# EAGLE library part TP4056 (library pimoroni-ics)
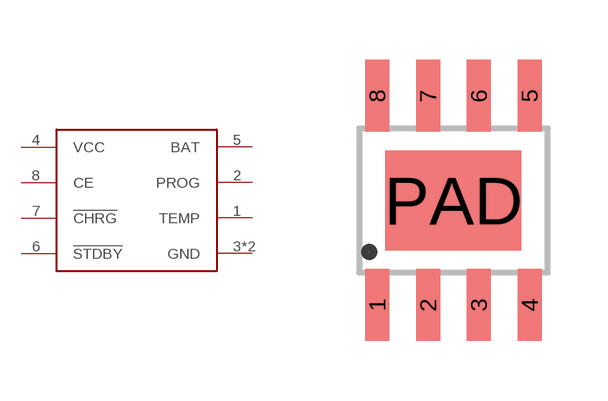
[diagram p78: symbol with the pads of SO08-PAD-300; footprint SO08-PAD-300]

Designator prefix U

## TP4056  [SO08-PAD-300]
1  TEMP
2  PROG
3  GND
4  VCC
5  BAT
6  !STDBY
7  !CHRG
8  CE
PAD  GND

## Footprint SO08-PAD-300 (pad centres in mm)
Small Outline Package Fits JEDEC packages (narrow SOIC-8)
smd 0.6 x 1.8: 1 -1.905,-2.616; 2 -0.635,-2.616; 3 0.635,-2.616; 4 1.905,-2.616; 5 1.905,2.616; 6 0.635,2.616; 7 -0.635,2.616; 8 -1.905,2.616
smd 3.4 x 2.5: PAD 0,0